# Altium schematic symbol library ANT_TP.Schlib: 1 symbol
Pins are listed as number, name and electrical type; pins without a type are passive.

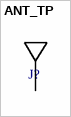
[diagram p0: symbol ANT_TP]

## ANT_TP
designator J?  (value not drawn)  (no BOM)
pins: 1, 2 hidden to GND